# Altium integrated library USB_UART_Module.IntLib: 15 symbols
Pins are listed as number, name and electrical type; pins without a type are passive.

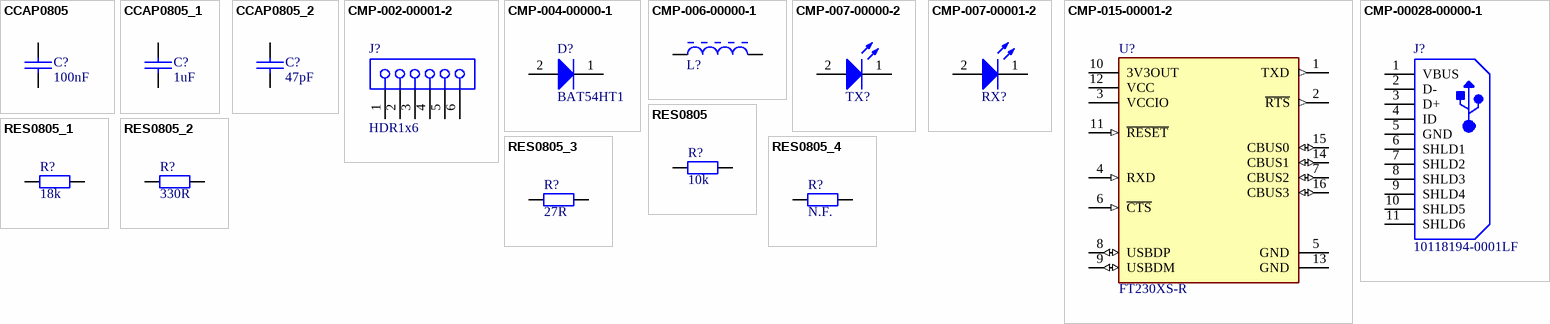
[diagram p0: symbols CCAP0805 to RES0805_4]

## CCAP0805
designator C?, comment 100nF
CCAP0805; LCSC Part Number: C62912; JLC Part Number: CL21B104JBCNNNC; Value: 100nF
footprint C0805
pins: 1, 2

## CCAP0805_1
designator C?, comment 1uF
CCAP0805; Value: 1uF; LCSC Part Number: C28323; JLC Part: CL21B105KBFNNNE
footprint C0805
pins: 1, 2

## CCAP0805_2
designator C?, comment 47pF
CCAP0805; Value: 47pF; LCSC Part Number: C14857; JLC Part: CL21C470JBANNNC
footprint C0805
pins: 1, 2

## CMP-002-00001-2
designator J?, comment HDR1x6
CONN RCPT 6POS 0.1 TIN PCB
footprint SMTC-SSW-106-02-X-S (SQ Post Socket, 1x6 Pins, Vertical, 2.54mm Pitch, Female)
pins: 1, 2, 3, 4, 5, 6

## CMP-004-00000-1
designator D?, comment BAT54HT1
DIODE SCHOTTKY 30V 200MA SOD323; LCSC Part Number: C21107
footprint ONSC-SOD-323-2-477-02_V (SOD, 2-Leads, Body 1.7x1.25mm)
pins: 1 K, 2 A

## CMP-006-00000-1
designator L?, comment FBMH3225HM102NT  (value not drawn)
TAIYO YUDEN         FBMH3225HM102NT            Ferrite Case Style:1210 [3225 Metric]; LCSC Part Number: C124093
footprint TAYO-3225-2_V (Chip Inductor, 2-Leads, Body 3.50x2.80mm)
pins: 1, 2

## CMP-007-00000-2
designator TX?, comment LSR976-NR-1  (value not drawn)
LED RED DIFFUSED 0805 SMD; LCSC Part Number: C84256
footprint FP-LS_R976-MFG
pins: 1 C, 2 A

## CMP-007-00001-2
designator RX?, comment LGR971-KN-1  (value not drawn)
LED Uni-Color Green 572nm 2-Pin SMD T/R; LCSC Part Number: C2297
footprint FP-LG_R971-MFG
pins: 1 C, 2 A

## CMP-015-00001-2
designator U?, comment FT230XS-R
USB-to-UART 1-CH 512byte FIFO 5V 16-Pin SSOP T/R; LCSC Part Number: C69082
footprint FP-SSOP-16-IPC_C
footprint FP-SSOP-16-IPC_B
footprint FP-SSOP-16-MFG
footprint FP-SSOP-16-IPC_A
pins: 1 TXD (out), 2 ~{RTS} (out), 3 VCCIO (power), 4 RXD (in), 5 GND (power), 6 ~{CTS} (in), 7 CBUS2 (io), 8 USBDP (io), 9 USBDM (io), 10 3V3OUT (power), 11 ~{RESET} (in), 12 VCC (power), 13 GND (power), 14 CBUS1 (io), 15 CBUS0 (io), 16 CBUS3 (io)

## CMP-00028-00000-1
designator J?, comment 10118194-0001LF
CONN USB MICRO B RECPT SMT R/A
footprint FCI-10118194-0001LF-5_V (SMD, 5-Leads, Body 7x5mm, Pitch 0.65 mm)
pins: 1 VBUS, 2 D-, 3 D+, 4 ID, 5 GND, 6 SHLD1, 7 SHLD2, 8 SHLD3, 9 SHLD4, 10 SHLD5, 11 SHLD6

## RES0805
designator R?, comment 10k
RES0805; Value: 10k; LCSC Part Number: C17414
footprint R0805
pins: 1, 2

## RES0805_1
designator R?, comment 18k
RES0805; Value: 18k; LCSC Part Number: C17506
footprint R0805
pins: 1, 2

## RES0805_2
designator R?, comment 330R
RES0805; Value: 330R; LCSC Part Number: C17630
footprint R0805
pins: 1, 2

## RES0805_3
designator R?, comment 27R
RES0805; Value: 27R; LCSC Part Number: C17594
footprint R0805
pins: 1, 2

## RES0805_4
designator R?, comment N.F.
RES0805; Value: N.F.; LCSC Part Number: *
footprint R0805
pins: 1, 2